# Altium schematic symbol library Texas_Instruments.SchLib: 2 symbols
Pins are listed as number, name and electrical type; pins without a type are passive.

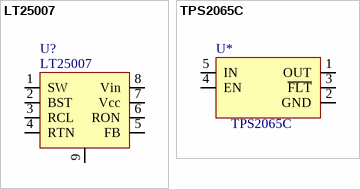
[diagram p0: symbols LT25007 to TPS2065C]

## LT25007
designator U?
Catalog: Farnell; Catalog number: 1312550; Catalog page: http://lv.farnell.com/national-semiconductor/lm25007sd/reg-step-down-switch-smd-llp-8/dp/1312550; Price: *
footprint LLP-8 4x4mm (LLP, 8-Leads, Body 4,0x4,0mm (max), Pitch 0,80mm, IPC Low Density)
pins: 1 SW, 2 BST, 3 RCL, 4 RTN, 5 FB, 6 RON, 7 Vcc, 8 Vin, 9 TB

## TPS2065C
designator U*
footprint SOT23-5AL (SOT23, 5-Leads, Body 2.9x1.6mm, Pitch 0.95mm, Lead Span 2.8mm, IPC High Density)
pins: 1 OUT, 2 GND, 3 ~{FLT}, 4 EN, 5 IN